# Altium footprint library Header-1.27mm-2X22-M-V.PcbLib: 1 footprints
Each footprint in its own frame and in the unit in brackets; x right, y up, seen from the top. Pads: shape width x height; smd on the part's side, far side on the other; paste and mask are expansions set on the pad; w line width, h text height; cw(c..) or ccw(c..) is an arc to the next point about the centre after c.
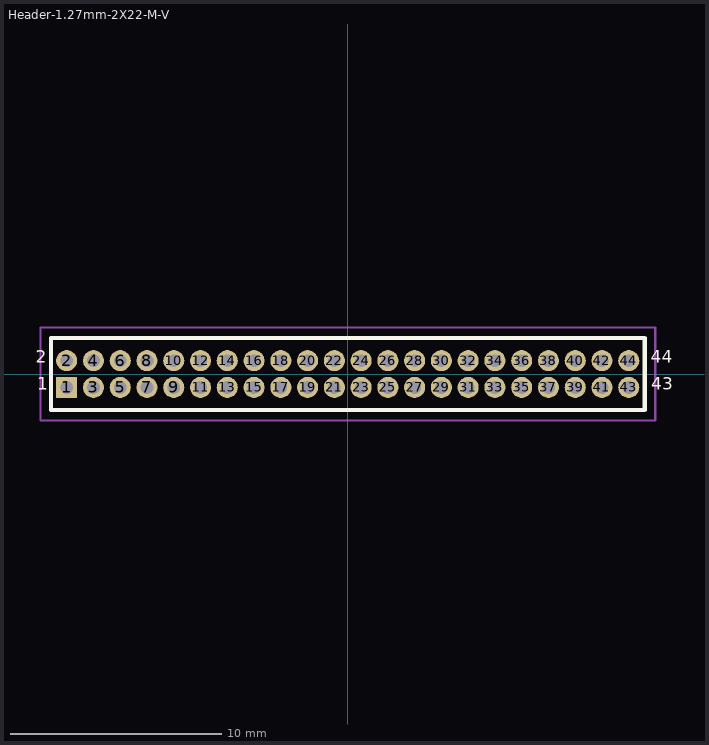
[diagram p0: the footprint, top view; thin cyan lines are the x and y axes]

## Header-1.27mm-2X22-M-V [mm]
pads (44):
  rect 1x1 hole 0.6: 1(-13.335,-0.635)
  round 1 hole 0.6: 2(-13.335,0.635) 3(-12.065,-0.635) 4(-12.065,0.635) 5(-10.795,-0.635) 6(-10.795,0.635) 7(-9.525,-0.635) 8(-9.525,0.635) 9(-8.255,-0.635) 10(-8.255,0.635) 11(-6.985,-0.635) 12(-6.985,0.635) 13(-5.715,-0.635) 14(-5.715,0.635) 15(-4.445,-0.635) 16(-4.445,0.635) 17(-3.175,-0.635) 18(-3.175,0.635) 19(-1.905,-0.635) 20(-1.905,0.635) 21(-0.635,-0.635) 22(-0.635,0.635) 23(0.635,-0.635) 24(0.635,0.635) 25(1.905,-0.635) 26(1.905,0.635) 27(3.175,-0.635) 28(3.175,0.635) 29(4.445,-0.635) 30(4.445,0.635) 31(5.715,-0.635) 32(5.715,0.635) 33(6.985,-0.635) 34(6.985,0.635) 35(8.255,-0.635) 36(8.255,0.635) 37(9.525,-0.635) 38(9.525,0.635) 39(10.795,-0.635) 40(10.795,0.635) 41(12.065,-0.635) 42(12.065,0.635) 43(13.335,-0.635) 44(13.335,0.635)
Top Overlay:
  lines w0.2: -14.085,-1.71 14.09,-1.71 14.09,1.715 -14.085,1.715 -14.085,-1.71
  text "44" at 14.386,0.314 h1
  text "43" at 14.395,-0.951 h1
  text "2" at -14.8,0.313 h1
  text "1" at -14.726,-0.957 h1
Top Courtyard:
  lines w0.1: -14.585,-2.21 -14.085,-2.21 14.59,-2.21 14.59,2.215 -14.585,2.215 -14.585,-2.21
3D body "FTS-122-01-F-D.stp": height 3.91, standoff -2.29, extent -13.97,-1.715 13.97,1.715